# Altium footprint library SM_SOD-523.PcbLib: 1 footprints
Each footprint in its own frame and in the unit in brackets; x right, y up, seen from the top. Pads: shape width x height; smd on the part's side, far side on the other; paste and mask are expansions set on the pad; w line width, h text height; cw(c..) or ccw(c..) is an arc to the next point about the centre after c.
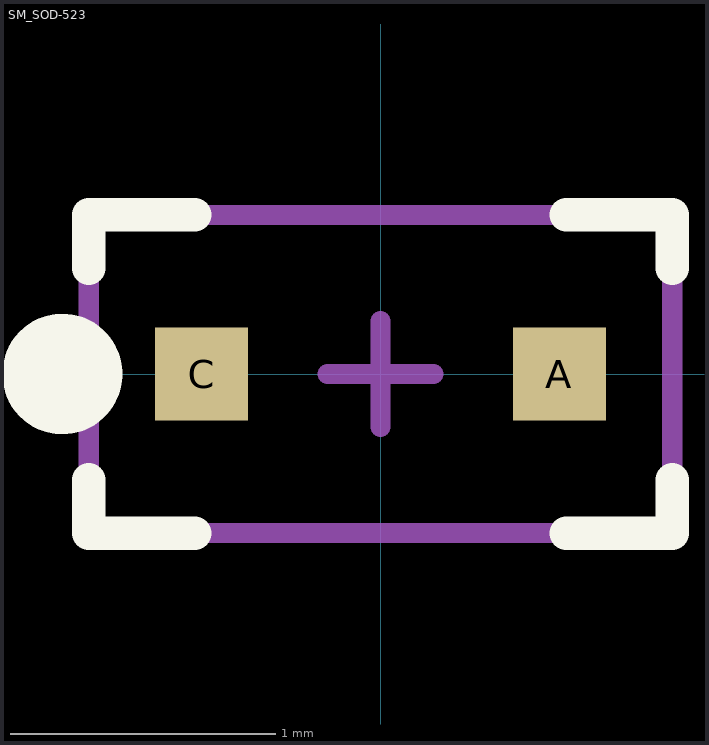
[diagram p0: the footprint, top view; thin cyan lines are the x and y axes]

## SM_SOD-523 [mm] "SOD-523 or SC79-2"
pads (2):
  rect 0.35x0.35 smd mask+0.076: A(0.675,0) C(-0.675,0)
Top Overlay:
  circle w0.254: c-1.2,0 r0.1
  lines w0.127: -1.1,-0.4 -1.1,-0.6 -0.7,-0.6 ; -1.1,0.4 -1.1,0.6 -0.7,0.6 ; 0.7,-0.6 1.1,-0.6 1.1,-0.4 ; 0.7,0.6 1.1,0.6 1.1,0.4
Mechanical 15:
  lines w0.076: -0.2,0 0.2,0 ; 0,-0.2 0,0.2 ; -1.1,-0.6 -1.1,0.6 1.1,0.6 1.1,-0.6 -1.1,-0.6
3D body "User Library-SOD-523F.step": height 0.7, standoff 0, extent -0.8,-0.399 0.8,0.399